# Altium footprint library TO-247.PcbLib: 1 footprints
Each footprint in its own frame and in the unit in brackets; x right, y up, seen from the top. Pads: shape width x height; smd on the part's side, far side on the other; paste and mask are expansions set on the pad; w line width, h text height; cw(c..) or ccw(c..) is an arc to the next point about the centre after c.
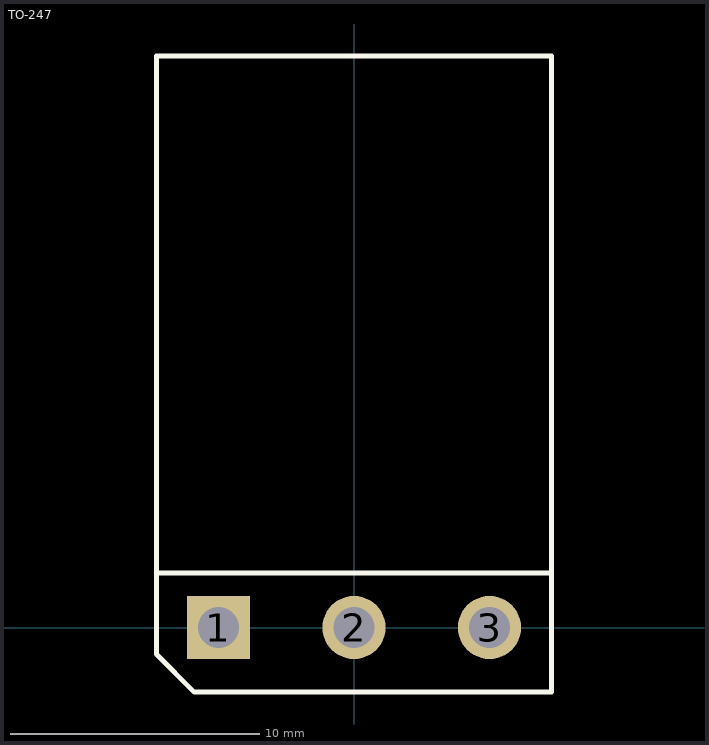
[diagram p0: the footprint, top view; thin cyan lines are the x and y axes]

## TO-247 [mil] "SIP with Mounting Hole; 3 Leads; Body 20 x 15.6 x 5 mm (typ); Pitch 5.45 mm"
height 968.5
pads (3):
  rect 100x100 hole 65: 1(-214.57,0)
  round 100 hole 65: 2(0,0) 3(214.57,0)
Top Overlay:
  lines w7.87: -312.99,86.61 312.99,86.61 ; -312.99,-42.01 -252.64,-102.36 312.99,-102.36 312.99,905 -312.99,905 -312.99,-42.01